# Altium schematic symbol library ADM3490.SchLib: 1 symbol
Pins are listed as number, name and electrical type; pins without a type are passive.

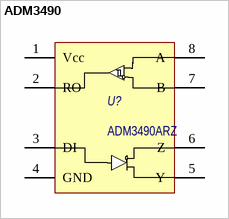
[diagram p0: symbol ADM3490]

## ADM3490
designator U?, comment ADM3490ARZ
3.3 V Slew Rate Limited, Half- and / Full-Duplex, RS-485/RS-422 Transceivers; Наименование: ADM3066EBCPZ; Назначение: RS-485 Transceiver; Потребление, Вт: 0,1
footprint SOIC-8
pins: 1 Vcc, 2 RO, 3 DI, 4 GND, 5 Y (power), 6 Z, 7 B, 8 A (power)